# EAGLE library part LP3878SDX-ADJ/NOPB (library circuit_tree)
IC
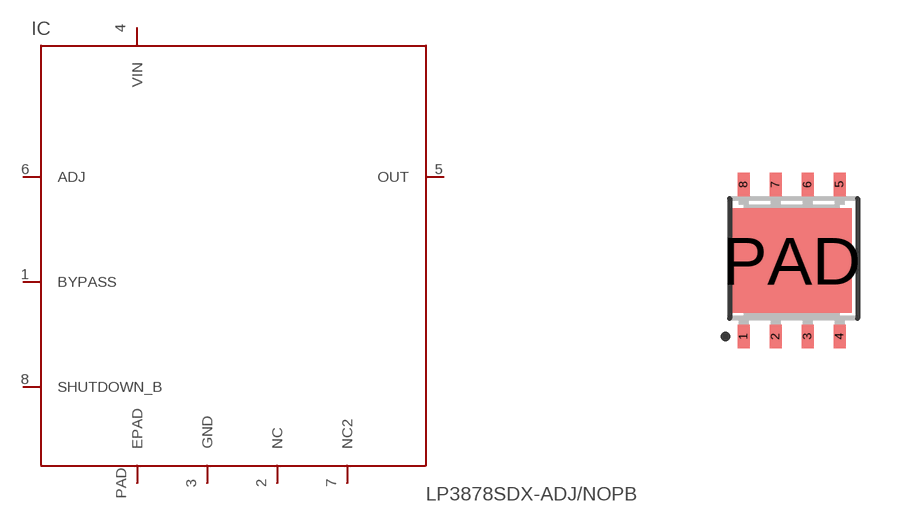
[diagram p6: symbol with the pads of WSON-8; footprint WSON-8]

Designator prefix IC

## LP3878SDX-ADJ/NOPB  [WSON-8]
1  BYPASS  pas
2  NC  pas
3  GND  pas
4  VIN  pas
5  OUT  pas
6  ADJ  pas
7  NC2  pas
8  SHUTDOWN_B  pas
PAD  EPAD  pas

## Footprint WSON-8 (pad centres in mm)
smd 0.3 x 0.6: 1 -0.75,0; 2 0.05,0; 3 0.85,0; 4 1.65,0; 5 1.65,3.8; 6 0.85,3.8; 7 0.05,3.8; 8 -0.75,3.8
smd 3 x 2.6: PAD 0.45,1.9